# Altium footprint library Cellular.PcbLib: 3 footprints
Each footprint in its own frame and in the unit in brackets; x right, y up, seen from the top. Pads: shape width x height; smd on the part's side, far side on the other; paste and mask are expansions set on the pad; w line width, h text height; cw(c..) or ccw(c..) is an arc to the next point about the centre after c.
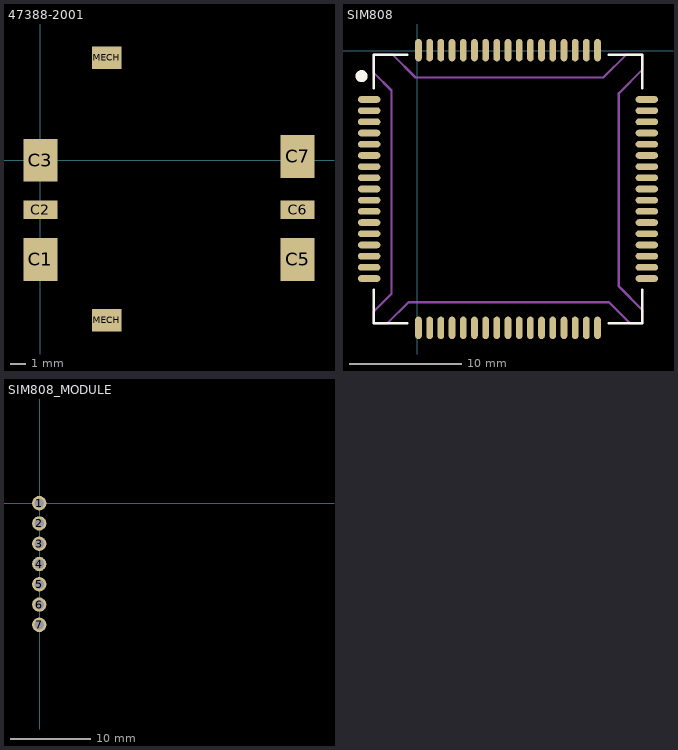
[diagram p0: the footprints below, top view; thin cyan lines are the x and y axes]

## 47388-2001 [mm] "SIM Card Holder"
pads (8):
  rect 2.2x2.8 smd: C1(0,-6.48) C3(0,0) C5(16.8,-6.48) C7(16.8,0.254)
  rect 2.2x1.2 smd: C2(0,-3.24) C6(16.8,-3.24)
  rect 1.95x1.45 smd: MECH(4.33,-10.46) MECH(4.33,6.7)
3D body "473882001.stp": height 2, standoff 0, extent -0.949,-10.922 24.571,7.178

## SIM808 [mm]
pads (68):
  rrect100% 2x0.6 smd: P$1(-4.271,-4.365) P$2(-4.271,-5.365) P$3(-4.271,-6.365) P$4(-4.271,-7.365) P$5(-4.271,-8.365) P$6(-4.271,-9.365) P$7(-4.271,-10.365) P$8(-4.271,-11.365) P$9(-4.271,-12.365) P$10(-4.271,-13.365) P$11(-4.271,-14.365) P$12(-4.271,-15.365) P$13(-4.271,-16.365) P$14(-4.271,-17.365) P$15(-4.271,-18.365) P$16(-4.271,-19.365) P$17(-4.271,-20.365) P$35(20.529,-20.365) P$36(20.529,-19.365) P$37(20.529,-18.365) P$38(20.529,-17.365) P$39(20.529,-16.365) P$40(20.529,-15.365) P$41(20.529,-14.365) P$42(20.529,-13.365) P$43(20.529,-12.365) P$44(20.529,-11.365) P$45(20.529,-10.365) P$46(20.529,-9.365) P$47(20.529,-8.365) P$48(20.529,-7.365) P$49(20.529,-6.365) P$50(20.529,-5.365) P$51(20.529,-4.365)
  rrect100% 0.6x2 smd: P$18(0.129,-24.765) P$19(1.129,-24.765) P$20(2.129,-24.765) P$21(3.129,-24.765) P$22(4.129,-24.765) P$23(5.129,-24.765) P$24(6.129,-24.765) P$25(7.129,-24.765) P$26(8.129,-24.765) P$27(9.129,-24.765) P$28(10.129,-24.765) P$29(11.129,-24.765) P$30(12.129,-24.765) P$31(13.129,-24.765) P$32(14.129,-24.765) P$33(15.129,-24.765) P$34(16.129,-24.765) P$52(16.129,0.035) P$53(15.129,0.035) P$54(14.129,0.035) P$55(13.129,0.035) P$56(12.129,0.035) P$57(11.129,0.035) P$58(10.129,0.035) P$59(9.129,0.035) P$60(8.129,0.035) P$61(7.129,0.035) P$62(6.129,0.035) P$63(5.129,0.035) P$64(4.129,0.035) P$65(3.129,0.035) P$66(2.129,0.035) P$67(1.129,0.035) P$68(0.129,0.035)
Top Overlay:
  circle w0.813: c-4.953,-2.286 r0.127
  lines w0.203: -3.871,-21.365 -3.871,-24.365 -0.871,-24.365 ; -3.871,-3.365 -3.871,-0.365 -0.871,-0.365 ; 17.129,-24.365 20.129,-24.365 20.129,-21.365 ; 17.129,-0.365 20.129,-0.365 20.129,-3.365
Mechanical 16:
  lines w0.203: -3.871,-24.365 -3.871,-23.302 -2.286,-21.717 -2.286,-3.556 -3.871,-1.971 -3.871,-0.365 -2.175,-0.365 -0.127,-2.413 16.637,-2.413 18.685,-0.365 20.129,-0.365 20.129,-1.715 18.034,-3.81 18.034,-21.082 20.129,-23.177 20.129,-24.365 19.031,-24.365 17.145,-22.479 -0.762,-22.479 -2.648,-24.365 -3.871,-24.365
3D body: height 5, standoff 0, extent -3.937,-24.384 19.939,-0.381

## SIM808_MODULE [mm] "And Group SIM808 Module"
pads (7):
  round 1.8 hole 1.2: 1(-0.036,-0.014) 2(-0.036,-2.554) 3(-0.036,-5.094) 4(-0.036,-7.634) 5(-0.036,-10.174) 6(-0.036,-12.714) 7(-0.036,-15.254)
Bottom Overlay:
  lines w0.254: -2.576,-26.43 35.016,-26.43 35.016,11.162 -2.576,11.162 -2.576,-26.43
3D body: height 7.05, standoff 0.05, extent -2.576,-26.43 35.016,11.162